# Altium integrated library ESP32-DEVKIT.intlib: 1 symbol
Pins are listed as number, name and electrical type; pins without a type are passive.

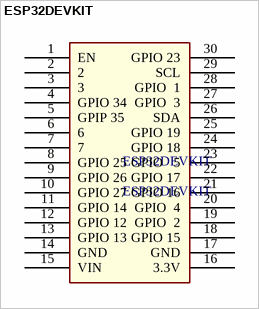
[diagram p0: symbol ESP32DEVKIT]

## ESP32DEVKIT
designator ESP32DEVKIT
footprint ESP32devKitV1
pins: 1 EN, 2, 3, 4 GPIO 34, 5 GPIP 35, 6, 7, 8 GPIO 25, 9 GPIO 26, 10 GPIO 27, 11 GPIO 14, 12 GPIO 12, 13 GPIO 13, 14 GND, 15 VIN, 16 3.3V, 17 GND, 18 GPIO 15, 19 GPIO  2, 20 GPIO  4, 21 GPIO 16, 22 GPIO 17, 23 GPIO   5, 24 GPIO 18, 25 GPIO 19, 26 SDA, 27 GPIO  3, 28 GPIO  1, 29 SCL, 30 GPIO 23